# Altium footprint library WE-SHC.PcbLib: 15 footprints
Each footprint in its own frame and in the unit in brackets; x right, y up, seen from the top. Pads: shape width x height; smd on the part's side, far side on the other; paste and mask are expansions set on the pad; w line width, h text height; cw(c..) or ccw(c..) is an arc to the next point about the centre after c.
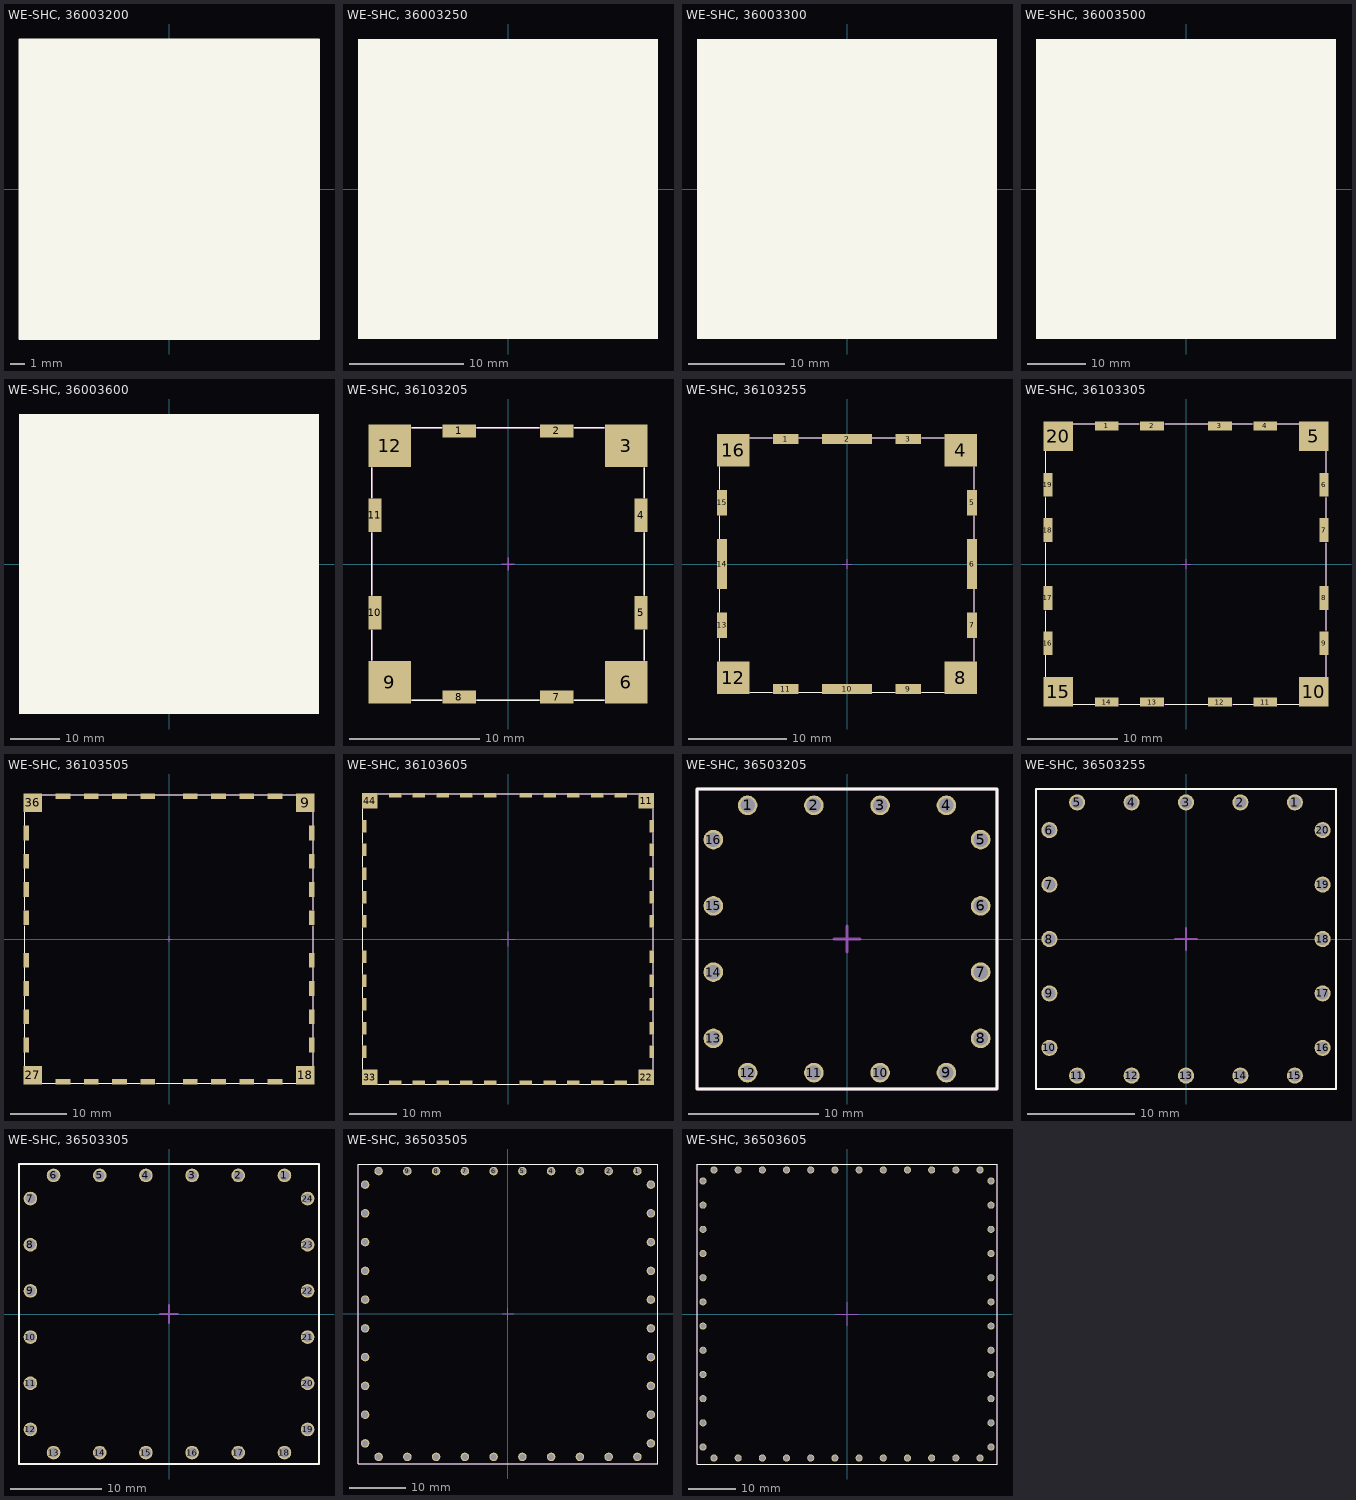
[diagram p0: the footprints below, top view; thin cyan lines are the x and y axes]

## WE-SHC, 36003200 [mm] "Shielding Cabinet WE-SHC,TOP COVER,20mmX20mm"
height 3
Top Overlay:
  rectangle: -10.6,-10.6 10.6,10.6
  lines w0.102: -10.6,-10.6 -10.6,10.6 10.6,10.6 10.6,-10.6 -10.6,-10.6
3D body: height 3.3, standoff 0, extent -10.9,-10.9 10.9,10.9

## WE-SHC, 36003250 [mm] "Shielding Cabinet WE-SHC,TOP COVER,25mmX25mm"
height 3
Top Overlay:
  rectangle: -13.1,-13.1 13.1,13.1
  lines w0.102: -10.6,-10.6 -10.6,10.6 10.6,10.6 10.6,-10.6 -10.6,-10.6
3D body: height 3.3, standoff 0, extent -13.4,-13.3 13.4,13.5

## WE-SHC, 36003300 [mm] "Shielding Cabinet WE-SHC,TOP COVER,30mmX30mm"
height 3
Top Overlay:
  rectangle: -15.6,-15.6 15.6,15.6
  lines w0.102: -10.6,-10.6 10.6,-10.6 10.6,10.6 -10.6,10.6 -10.6,-10.6
3D body: height 3.3, standoff 0, extent -15.9,-15.9 15.9,15.9

## WE-SHC, 36003500 [mm] "Shielding Cabinet WE-SHC,TOP COVER,50mmX50mm"
height 3
Top Overlay:
  rectangle: -25.6,-25.6 25.6,25.6
  lines w0.102: -10.6,-10.6 -10.6,10.6 10.6,10.6 10.6,-10.6 -10.6,-10.6
3D body: height 3.3, standoff 0, extent -25.9,-25.9 25.9,25.9

## WE-SHC, 36003600 [mm] "Shielding Cabinet WE-SHC,TOP COVER,60mmX60mm"
height 3
Top Overlay:
  rectangle: -30.6,-30.6 30.6,30.6
  lines w0.102: -10.6,-10.6 -10.6,10.6 10.6,10.6 10.6,-10.6 -10.6,-10.6
3D body: height 3.3, standoff 0, extent -30.8,-30.8 31,31

## WE-SHC, 36103205 [mm] "Shielding Cabinet WE-SHC,FRAME SMD,20mmX20mm"
height 3
pads (12):
  rect 2.6x1 smd: 1(-3.75,10.25) 2(3.75,10.25) 7(3.75,-10.25) 8(-3.75,-10.25)
  rect 3.3x3.3 smd: 3(9.1,9.1) 6(9.1,-9.1) 9(-9.1,-9.1) 12(-9.1,9.1)
  rect 1x2.6 smd: 4(10.25,3.75) 5(10.25,-3.75) 10(-10.25,-3.75) 11(-10.25,3.75)
Top Overlay:
  lines w0.102: -10.5,-7.4 -10.5,-5.1 ; -10.5,-2.4 -10.5,2.4 ; -10.5,5.1 -10.5,7.4 ; -7.4,-10.5 -5.1,-10.5 ; -7.4,10.5 -5.1,10.5 ; -2.4,-10.5 2.4,-10.5 ; -2.4,10.5 2.4,10.5 ; 5.1,-10.5 7.4,-10.5 ; 5.1,10.5 7.4,10.5 ; 10.5,-7.4 10.5,-5.1 ; 10.5,-2.4 10.5,2.4 ; 10.5,5.1 10.5,7.4
Mechanical 15:
  lines w0.102: -0.5,0 0.5,0 ; 0,-0.5 0,0.5 ; -10.5,-10.5 -10.5,10.5 10.5,10.5 10.5,-10.5 -10.5,-10.5
3D body: height 3.5, standoff 0, extent -10.5,-10.5 10.5,10.5

## WE-SHC, 36103255 [mm] "Shielding Cabinet WE-SHC,FRAME SMD,25mmX25mm"
height 3
pads (16):
  rect 2.6x1 smd: 1(-6.25,12.75) 3(6.25,12.75) 9(6.25,-12.75) 11(-6.25,-12.75)
  rect 5.1x1 smd: 2(0,12.75) 10(0,-12.75)
  rect 3.3x3.3 smd: 4(11.6,11.6) 8(11.6,-11.6) 12(-11.6,-11.6) 16(-11.6,11.6)
  rect 1x2.6 smd: 5(12.75,6.25) 7(12.75,-6.25) 13(-12.75,-6.25) 15(-12.75,6.25)
  rect 1x5.1 smd: 6(12.75,0) 14(-12.75,0)
Top Overlay:
  lines w0.102: -13,-9.9 -13,-7.6 ; -13,-4.9 -13,-2.6 ; -13,2.6 -13,4.9 ; -13,7.6 -13,9.9 ; -9.9,-13.1 -7.6,-13.1 ; -9.9,12.9 -7.6,12.9 ; -4.9,-13.1 -2.6,-13.1 ; -4.9,12.9 -2.6,12.9 ; 2.6,-13.1 4.9,-13.1 ; 2.6,12.9 4.9,12.9 ; 7.6,-13.1 9.9,-13.1 ; 7.6,12.9 9.9,12.9 ; 13,-9.9 13,-7.6 ; 13,-4.9 13,-2.6 ; 13,2.6 13,4.9 ; 13,7.6 13,9.9
Mechanical 15:
  lines w0.102: -0.5,0 0.5,0 ; 0,-0.5 0,0.5 ; -13,-13.1 -13,12.9 13,12.9 13,-13.1 -13,-13.1
3D body: height 3.5, standoff 0, extent -13,-13.1 13,12.9

## WE-SHC, 36103305 [mm] "Shielding Cabinet WE-SHC,FRAME SMD,30mmX30mm"
height 3
pads (20):
  rect 2.6x1 smd: 1(-8.75,15.25) 2(-3.75,15.25) 3(3.75,15.25) 4(8.75,15.25) 11(8.75,-15.25) 12(3.75,-15.25) 13(-3.75,-15.25) 14(-8.75,-15.25)
  rect 3.3x3.3 smd: 5(14.1,14.1) 10(14.1,-14.1) 15(-14.1,-14.1) 20(-14.1,14.1)
  rect 1x2.6 smd: 6(15.25,8.75) 7(15.25,3.75) 8(15.25,-3.75) 9(15.25,-8.75) 16(-15.25,-8.75) 17(-15.25,-3.75) 18(-15.25,3.75) 19(-15.25,8.75)
Top Overlay:
  lines w0.102: -15.5,-12.5 -15.5,-10 ; -15.5,-7.5 -15.5,-5.2 ; -15.5,-2.5 -15.5,2.3 ; -15.5,5 -15.5,7.3 ; -15.5,10 -15.5,12.5 ; -12.5,-15.5 -10,-15.5 ; -12.5,15.5 -10,15.5 ; -7.5,15.5 -5.2,15.5 ; -7.3,-15.5 -5,-15.5 ; -2.3,-15.5 2.5,-15.5 ; -2.3,15.5 2.5,15.5 ; 5,15.5 7.3,15.5 ; 5.2,-15.5 7.5,-15.5 ; 10,-15.5 12.5,-15.5 ; 10,15.5 12.5,15.5 ; 15.5,-12.5 15.5,-10 ; 15.5,-7.3 15.5,-5 ; 15.5,-2.5 15.5,2.3 ; 15.5,5 15.5,7.3 ; 15.5,10 15.5,12.5
Mechanical 15:
  lines w0.102: -0.5,0 0.5,0 ; 0,-0.5 0,0.5 ; -15.5,-15.5 15.5,-15.5 15.5,15.5 -15.5,15.5 -15.5,-15.5
3D body: height 3.5, standoff 0, extent -15.5,-15.5 15.5,15.5

## WE-SHC, 36103505 [mm] "Shielding Cabinet WE-SHC,FRAME SMD,50mmX50mm"
height 3
pads (36):
  rect 2.6x1 smd: 1(-18.75,25.25) 2(-13.75,25.25) 3(-8.75,25.25) 4(-3.75,25.25) 5(3.75,25.25) 6(8.75,25.25) 7(13.75,25.25) 8(18.75,25.25) 19(18.75,-25.25) 20(13.75,-25.25) 21(8.75,-25.25) 22(3.75,-25.25) 23(-3.75,-25.25) 24(-8.75,-25.25) 25(-13.75,-25.25) 26(-18.75,-25.25)
  rect 3.3x3.3 smd: 9(24.1,24.1) 18(24.1,-24.1) 27(-24.1,-24.1) 36(-24.1,24.1)
  rect 1x2.6 smd: 10(25.25,18.75) 11(25.25,13.75) 12(25.25,8.75) 13(25.25,3.75) 14(25.25,-3.75) 15(25.25,-8.75) 16(25.25,-13.75) 17(25.25,-18.75) 28(-25.25,-18.75) 29(-25.25,-13.75) 30(-25.25,-8.75) 31(-25.25,-3.75) 32(-25.25,3.75) 33(-25.25,8.75) 34(-25.25,13.75) 35(-25.25,18.75)
Top Overlay:
  lines w0.102: -25.5,-22.5 -25.5,-20 ; -25.5,-17.5 -25.5,-15 ; -25.5,-12.5 -25.5,-10 ; -25.5,-7.5 -25.5,-5 ; -25.5,-2.5 -25.5,2.3 ; -25.5,5.2 -25.5,7.5 ; -25.5,10 -25.5,12.5 ; -25.5,15 -25.5,17.5 ; -25.5,20 -25.5,22.5 ; -22.5,-25.5 -20,-25.5 ; -22.5,25.5 -20,25.5 ; -17.5,-25.5 -15,-25.5 ; -17.5,25.5 -15,25.5 ; -12.5,-25.5 -10,-25.5 ; -12.5,25.5 -10,25.5 ; -7.5,-25.5 -5.2,-25.5 ; -7.5,25.5 -5,25.5 ; -2.5,25.5 2.5,25.5 ; -2.3,-25.5 2.5,-25.5 ; 5,-25.5 7.5,-25.5 ; 5,25.5 7.5,25.5 ; 10,-25.5 12.5,-25.5 ; 10,25.5 12.5,25.5 ; 15,-25.5 17.5,-25.5 ; 15,25.5 17.5,25.5 ; 20,-25.5 22.5,-25.5 ; 20,25.5 22.5,25.5 ; 25.5,-22.5 25.5,-20 ; 25.5,-17.5 25.5,-15 ; 25.5,-12.5 25.5,-10 ; 25.5,-7.5 25.5,-5 ; 25.5,-2.5 25.5,2.3 ; 25.5,5.2 25.5,7.5 ; 25.5,10 25.5,12.5 ; 25.5,15 25.5,17.5 ; 25.5,20 25.5,22.5
Mechanical 15:
  lines w0.102: -0.5,0 0.5,0 ; 0,-0.5 0,0.5 ; -25.5,-25.5 25.5,-25.5 25.5,25.5 -25.5,25.5 -25.5,-25.5
3D body: height 3.5, standoff 0, extent -25.5,-25.5 25.5,25.5

## WE-SHC, 36103605 [mm] "Shielding Cabinet WE-SHC,FRAME SMD,60mmX60mm"
height 3
pads (44):
  rect 2.6x1 smd: 1(-23.75,30.25) 2(-18.75,30.25) 3(-13.75,30.25) 4(-8.75,30.25) 5(-3.75,30.25) 6(3.75,30.25) 7(8.75,30.25) 8(13.75,30.25) 9(18.75,30.25) 10(23.75,30.25) 23(23.75,-30.25) 24(18.75,-30.25) 25(13.75,-30.25) 26(8.75,-30.25) 27(3.75,-30.25) 28(-3.75,-30.25) 29(-8.75,-30.25) 30(-13.75,-30.25) 31(-18.75,-30.25) 32(-23.75,-30.25)
  rect 3.3x3.3 smd: 11(29.1,29.1) 22(29.1,-29.1) 33(-29.1,-29.1) 44(-29.1,29.1)
  rect 1x2.6 smd: 12(30.25,23.75) 13(30.25,18.75) 14(30.25,13.75) 15(30.25,8.75) 16(30.25,3.75) 17(30.25,-3.75) 18(30.25,-8.75) 19(30.25,-13.75) 20(30.25,-18.75) 21(30.25,-23.75) 34(-30.25,-23.75) 35(-30.25,-18.75) 36(-30.25,-13.75) 37(-30.25,-8.75) 38(-30.25,-3.75) 39(-30.25,3.75) 40(-30.25,8.75) 41(-30.25,13.75) 42(-30.25,18.75) 43(-30.25,23.75)
Top Overlay:
  lines w0.102: -30.5,-27.4 -30.5,-25.1 ; -30.5,-22.4 -30.5,-20.1 ; -30.5,-17.4 -30.5,-15.1 ; -30.5,-12.4 -30.5,-10.1 ; -30.5,-7.4 -30.5,-5.1 ; -30.5,-2.4 -30.5,2.4 ; -30.5,5.1 -30.5,7.4 ; -30.5,10.1 -30.5,12.4 ; -30.5,15.1 -30.5,17.4 ; -30.5,20.1 -30.5,22.4 ; -30.5,25.1 -30.5,27.4 ; -27.4,-30.5 -25.1,-30.5 ; -27.4,30.6 -25.1,30.6 ; -22.4,-30.5 -20.1,-30.5 ; -22.4,30.6 -20.1,30.6 ; -17.5,-30.5 -15,-30.5 ; -17.4,30.6 -15.1,30.6 ; -12.5,-30.5 -10,-30.5 ; -12.4,30.6 -10.1,30.6 ; -7.4,-30.5 -5.1,-30.5 ; -7.4,30.6 -5.1,30.6 ; -2.4,-30.5 2.4,-30.5 ; -2.4,30.6 2.4,30.6 ; 5,-30.5 7.5,-30.5 ; 5.1,30.6 7.4,30.6 ; 10,-30.5 12.5,-30.5 ; 10.1,30.6 12.4,30.6 ; 15,-30.5 17.5,-30.5 ; 15.1,30.6 17.4,30.6 ; 20,-30.5 22.5,-30.5 ; 20.1,30.6 22.4,30.6 ; 25,-30.5 27.5,-30.5 ; 25.05,30.6 27.35,30.6 ; 30.6,-27.4 30.6,-25.1 ; 30.6,-22.4 30.6,-20.1 ; 30.6,-17.4 30.6,-15.1 ; 30.6,-12.4 30.6,-10.1 ; 30.6,-7.4 30.6,-5.1 ; 30.6,-2.4 30.6,2.4 ; 30.6,5.1 30.6,7.4 ; 30.6,10.1 30.6,12.4 ; 30.6,15.1 30.6,17.4 ; 30.6,20.1 30.6,22.4 ; 30.6,25.1 30.6,27.4
Mechanical 15:
  lines w0.102: -1.5,0 1.5,0 ; 0,-1.5 0,1.5 ; -30.5,-30.5 30.6,-30.5 30.6,30.6 -30.5,30.6 -30.5,-30.5
3D body: height 3.5, standoff 0, extent -30.5,-30.5 30.5,30.5

## WE-SHC, 36503205 [mm] "Shielding Cabinet WE-SHC,FRAME THT,20mmX20mm"
height 3
pads (16):
  round 1.5 hole 1.1: 1(-7.62,10.25) 2(-2.54,10.25) 3(2.54,10.25) 4(7.62,10.25) 5(10.25,7.62) 6(10.25,2.54) 7(10.25,-2.54) 8(10.25,-7.62) 9(7.62,-10.25) 10(2.54,-10.25) 11(-2.54,-10.25) 12(-7.62,-10.25) 13(-10.25,-7.62) 14(-10.25,-2.54) 15(-10.25,2.54) 16(-10.25,7.62)
Top Overlay:
  lines w0.2: -11.5,-11.5 -11.5,11.5 11.5,11.5 11.5,0 11.5,-11.5 -11.5,-11.5
Mechanical 15:
  lines w0.2: -1,0 1,0 ; 0,-1 0,1 ; -11.5,-11.5 11.5,-11.5 11.5,0 11.5,11.5 -11.5,11.5 -11.5,-11.5
3D body: height 3.5, standoff -2.9, extent -10.5,-10.5 10.5,10.5

## WE-SHC, 36503255 [mm] "Shielding Cabinet WE-SHC,FRAME THT,25mmX25mm"
height 3
pads (20):
  round 1.5 hole 1.1: 1(10.16,12.75) 2(5.08,12.75) 3(0,12.75) 4(-5.08,12.75) 5(-10.16,12.75) 6(-12.75,10.16) 7(-12.75,5.08) 8(-12.75,0) 9(-12.75,-5.08) 10(-12.75,-10.16) 11(-10.16,-12.75) 12(-5.08,-12.75) 13(0,-12.75) 14(5.08,-12.75) 15(10.16,-12.75) 16(12.75,-10.16) 17(12.75,-5.08) 18(12.75,0) 19(12.75,5.08) 20(12.75,10.16)
Top Overlay:
  lines w0.2: -14,-14 14,-14 14,14 -14,14 -14,-14
Mechanical 15:
  lines w0.2: -1,0 1,0 ; 0,-1 0,1 ; -14,-14 -14,14 14,14 14,-14 -14,-14
3D body: height 3.5, standoff -2.9, extent -13,-13 13,13

## WE-SHC, 36503305 [mm] "Shielding Cabinet WE-SHC,FRAME THT,30mmX30mm"
height 3
pads (24):
  round 1.5 hole 1.1: 1(12.7,15.25) 2(7.62,15.25) 3(2.54,15.25) 4(-2.54,15.25) 5(-7.62,15.25) 6(-12.7,15.25) 7(-15.25,12.7) 8(-15.25,7.62) 9(-15.25,2.54) 10(-15.25,-2.54) 11(-15.25,-7.62) 12(-15.25,-12.7) 13(-12.7,-15.25) 14(-7.62,-15.25) 15(-2.54,-15.25) 16(2.54,-15.25) 17(7.62,-15.25) 18(12.7,-15.25) 19(15.25,-12.7) 20(15.25,-7.62) 21(15.25,-2.54) 22(15.25,2.54) 23(15.25,7.62) 24(15.25,12.7)
Top Overlay:
  lines w0.2: -16.5,-16.5 -16.5,16.5 16.5,16.5 16.5,-11.5 16.5,-16.5 -16.5,-16.5
Mechanical 15:
  lines w0.2: -1,0 1,0 ; 0,-1 0,1 ; -16.5,-16.5 11.5,-16.5 16.5,-16.5 16.5,16.5 -16.5,16.5 -16.5,-16.5
3D body: height 3.5, standoff -2.9, extent -15.5,-15.5 15.5,15.5

## WE-SHC, 36503505 [mm] "Shielding Cabinet WE-SHC,FRAME THT,50mmX50mm"
height 3
pads (40):
  round 1.5 hole 1.1: 1(22.86,25.25) 2(17.78,25.25) 3(12.7,25.25) 4(7.62,25.25) 5(2.54,25.25) 6(-2.54,25.25) 7(-7.62,25.25) 8(-12.7,25.25) 9(-17.78,25.25) 10(-22.86,25.25) 11(-25.25,22.86) 12(-25.25,17.78) 13(-25.25,12.7) 14(-25.25,7.62) 15(-25.25,2.54) 16(-25.25,-2.54) 17(-25.25,-7.62) 18(-25.25,-12.7) 19(-25.25,-17.78) 20(-25.25,-22.86) 21(-22.86,-25.25) 22(-17.78,-25.25) 23(-12.7,-25.25) 24(-7.62,-25.25) 25(-2.54,-25.25) 26(2.54,-25.25) 27(7.62,-25.25) 28(12.7,-25.25) 29(17.78,-25.25) 30(22.86,-25.25) 31(25.25,-22.86) 32(25.25,-17.78) 33(25.25,-12.7) 34(25.25,-7.62) 35(25.25,-2.54) 36(25.25,2.54) 37(25.25,7.62) 38(25.25,12.7) 39(25.25,17.78) 40(25.25,22.86)
Top Overlay:
  lines w0.2: -26.5,-26.5 26.5,-26.5 26.5,-16.5 26.5,26.5 -26.5,26.5 -26.5,-26.5
Mechanical 15:
  lines w0.2: -1,0 1,0 ; 0,-1 0,1 ; -26.5,-26.5 -26.5,26.5 26.5,26.5 26.5,-26.5 16.5,-26.5 -26.5,-26.5
3D body: height 3.5, standoff -2.9, extent -25.5,-25.5 25.5,25.5

## WE-SHC, 36503605 [mm] "Shielding Cabinet WE-SHC,FRAME THT,60mmX60mm"
height 3
pads (48):
  round 1.5 hole 1.1: 1(-27.94,30.25) 2(-22.86,30.25) 3(-17.78,30.25) 4(-12.7,30.25) 5(-7.62,30.25) 6(-2.54,30.25) 7(2.54,30.25) 8(7.62,30.25) 9(12.7,30.25) 10(17.78,30.25) 11(22.86,30.25) 12(27.94,30.25) 13(30.25,27.94) 14(30.25,22.86) 15(30.25,17.78) 16(30.25,12.7) 17(30.25,7.62) 18(30.25,2.54) 19(30.25,-2.54) 20(30.25,-7.62) 21(30.25,-12.7) 22(30.25,-17.78) 23(30.25,-22.86) 24(30.25,-27.94) 25(27.94,-30.25) 26(22.86,-30.25) 27(17.78,-30.25) 28(12.7,-30.25) 29(7.62,-30.25) 30(2.54,-30.25) 31(-2.54,-30.25) 32(-7.62,-30.25) 33(-12.7,-30.25) 34(-17.78,-30.25) 35(-22.86,-30.25) 36(-27.94,-30.25) 37(-30.25,-27.94) 38(-30.25,-22.86) 39(-30.25,-17.78) 40(-30.25,-12.7) 41(-30.25,-7.62) 42(-30.25,-2.54) 43(-30.25,2.54) 44(-30.25,7.62) 45(-30.25,12.7) 46(-30.25,17.78) 47(-30.25,22.86) 48(-30.25,27.94)
Top Overlay:
  lines w0.2: -31.5,-31.5 31.5,-31.5 31.5,31.5 -31.5,31.5 -31.5,-31.5
Mechanical 15:
  lines w0.2: -2.5,0 2.5,0 ; 0,-2.5 0,2.5 ; -31.5,-31.5 -31.5,31.5 31.5,31.5 31.5,-26.5 31.5,-31.5 -31.5,-31.5
3D body: height 3.5, standoff -2.9, extent -30.5,-30.5 30.5,30.5